# EAGLE library part 623310235321 (library Board-to-Board (rev18a))
WR-PHD 1.27mm Dual SMT Socket Header H=2.20mm,Bottom Entry, 10 Pins=>Code : Con_BTB_SHD_1.27_2_623310235321 <http://katalog.we-online.de/media/thumbs2/eican/thb_Con_BTB_SHD_1.27_2_6233xx235321_pf2.jpg> Details see: http://katalog.we-online.de/en/em/PHD_1_27_SMT_DUAL_SOCKET_HEADER_BOTTOM_ENTRY_REEL_6233XX235321 Created 2014-06-04, Karrer Zheng 2014 (C) Würth Elektronik
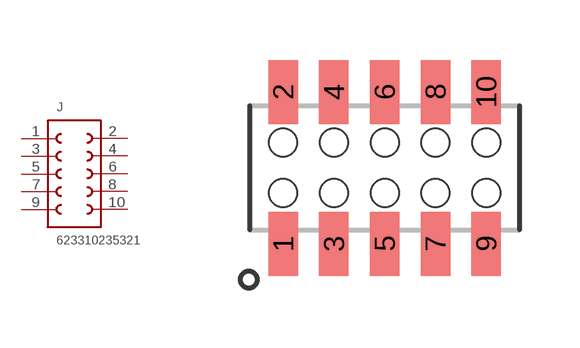
[diagram p300: symbol with the pads of 623310235321; footprint 623310235321]

Designator prefix J

## 623310235321  [623310235321]
1  1  pas
2  10  pas
3  2  pas
4  9  pas
5  3  pas
6  8  pas
7  4  pas
8  7  pas
9  5  pas
10  6  pas

## Footprint 623310235321 (pad centres in mm)
WR-PHD 1.27mm Dual SMT Socket Header H=2.20mm, Bottom Entry, 10 Pins
smd 0.74 x 1.6: 1 -2.54,-1.9; 2 -2.54,1.9; 3 -1.27,-1.9; 4 -1.27,1.9; 5 0,-1.9; 6 0,1.9; 7 1.27,-1.9; 8 1.27,1.9; 9 2.54,-1.9; 10 2.54,1.9
hole 0.7 at -2.54,0.635
hole 0.7 at -1.27,0.635
hole 0.7 at 0,0.635
hole 0.7 at 1.27,0.635
hole 0.7 at 2.54,0.635
hole 0.7 at -2.54,-0.635
hole 0.7 at -1.27,-0.635
hole 0.7 at 0,-0.635
hole 0.7 at 1.27,-0.635
hole 0.7 at 2.54,-0.635